# EAGLE library part FM25H20 (library medipix)
CYPRESS FRAM
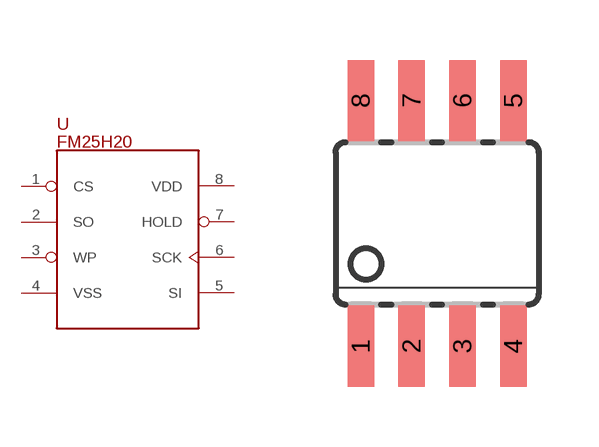
[diagram p1: symbol with the pads of SOIC08; footprint SOIC08]

Designator prefix -

## FM25H20  [SOIC08]
1  CS  in
2  SO  out
3  WP  in
4  VSS
5  SI  in
6  SCK  in
7  HOLD  in
8  VDD

## Footprint SOIC08 (pad centres in mm)
Small Outline Package
smd 0.66 x 2.032: 1 -1.905,-3.073; 2 -0.635,-3.073; 3 0.635,-3.073; 4 1.905,-3.073; 5 1.905,3.073; 6 0.635,3.073; 7 -0.635,3.073; 8 -1.905,3.073